# Altium footprint library R8 Bran.PcbLib: 57 footprints (part 4 of 4)
Each footprint in its own frame and in the unit in brackets; x right, y up, seen from the top. Pads: shape width x height; smd on the part's side, far side on the other; paste and mask are expansions set on the pad; w line width, h text height; cw(c..) or ccw(c..) is an arc to the next point about the centre after c.
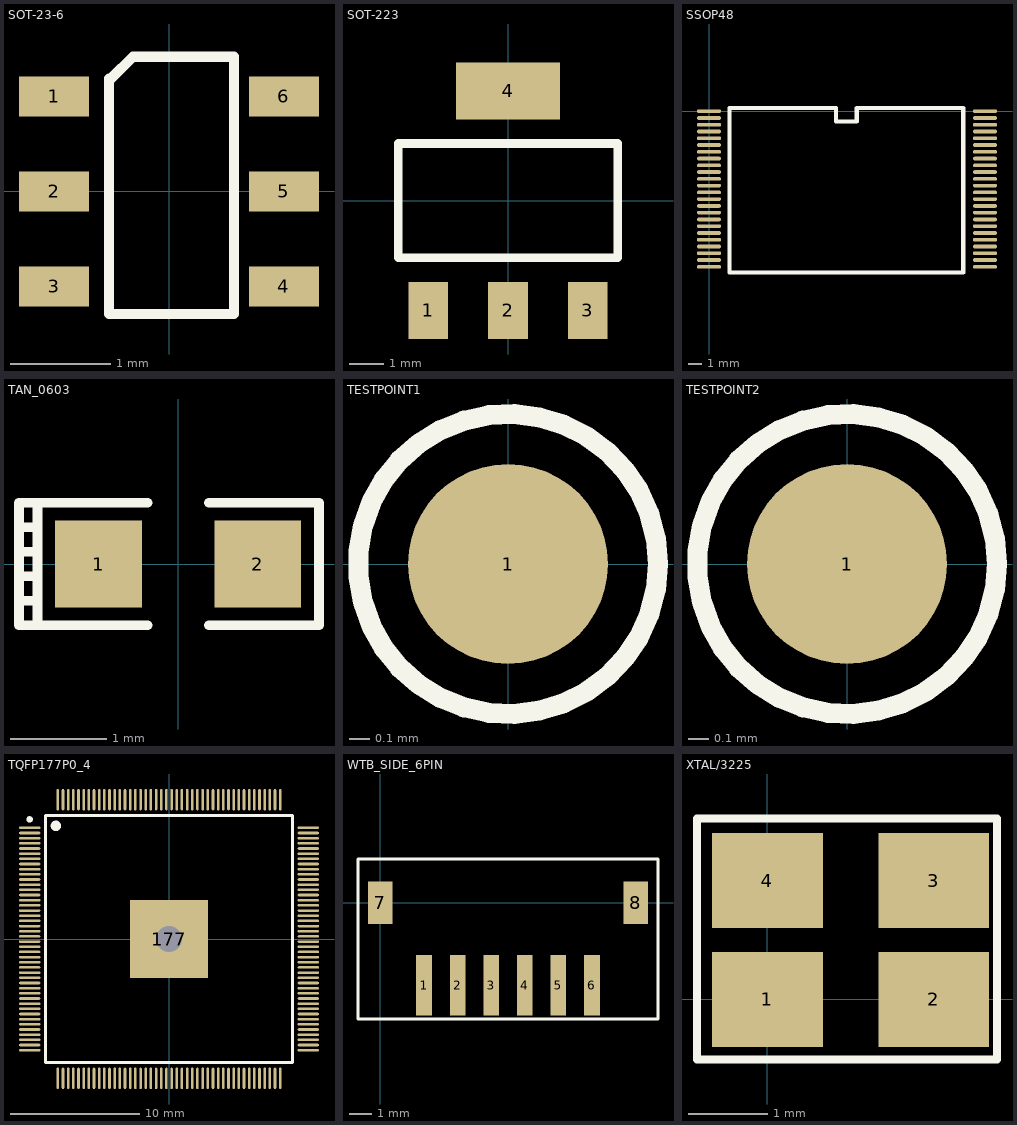
[diagram p3: the footprints below, top view; thin cyan lines are the x and y axes]

## SOT-23-6 [mm]
pads (6):
  rect 0.7x0.4 smd: 1(-1.15,0.95) 2(-1.15,0) 3(-1.15,-0.95) 4(1.15,-0.95) 5(1.15,0) 6(1.15,0.95)
Top Overlay:
  lines w0.102: -0.601,-1.226 0.649,-1.226 0.649,1.346 -0.36,1.346 -0.577,1.13 -0.601,1.13 -0.601,-1.226

## SOT-223 [mil]
pads (4):
  rect 45x65 smd: 1(-91,-125) 2(0,-125) 3(91,-125)
  rect 118x65 smd: 4(0,125)
Top Overlay:
  lines w10: -125,-65 125,-65 125,65 -125,65 -125,-65

## SSOP48 [mm]
pads (48):
  oval 1.778x0.275 smd: 1(0,0) 2(0,-0.5) 3(0,-1) 4(0,-1.5) 5(0,-2) 6(0,-2.5) 7(0,-3) 8(0,-3.5) 9(0,-4) 10(0,-4.5) 11(0,-5) 12(0,-5.5) 13(0,-6) 14(0,-6.5) 15(0,-7) 16(0,-7.5) 17(0,-8) 18(0,-8.5) 19(0,-9) 20(0,-9.5) 21(0,-10) 22(0,-10.5) 23(0,-11) 24(0,-11.5) 25(20.4,-11.5) 26(20.4,-11) 27(20.4,-10.5) 28(20.4,-10) 29(20.4,-9.5) 30(20.4,-9) 31(20.4,-8.5) 32(20.4,-8) 33(20.4,-7.5) 34(20.4,-7) 35(20.4,-6.5) 36(20.4,-6) 37(20.4,-5.5) 38(20.4,-5) 39(20.4,-4.5) 40(20.4,-4) 41(20.4,-3.5) 42(20.4,-3) 43(20.4,-2.5) 44(20.4,-2) 45(20.4,-1.5) 46(20.4,-1) 47(20.4,-0.5) 48(20.4,0)
Top Overlay:
  lines w0.3: 1.524,-11.938 1.524,0.254 9.398,0.254 9.398,-0.762 10.922,-0.762 10.922,0.254 18.796,0.254 18.796,-11.938 1.524,-11.938

## TAN_0603 [mm]
pads (2):
  rect 0.9x0.9 smd: 1(-0.826,0) 2(0.826,0)
Top Overlay:
  lines w0.102: -1.651,-0.127 -1.46,-0.127 ; -1.587,-0.381 -1.46,-0.381 ; -1.587,0.127 -1.46,0.127 ; -1.587,0.381 -1.46,0.381 ; -1.397,-0.635 -1.651,-0.635 -1.651,0.635 -1.46,0.635 ; -0.318,-0.635 -1.46,-0.635 -1.46,0.635 ; -0.318,0.635 -1.46,0.635 ; 0.318,-0.635 1.46,-0.635 1.46,0.635 0.318,0.635
3D body: height 0.9, standoff 0, extent -1.377,-0.552 1.377,0.552

## TESTPOINT1 [mm]
pads (1):
  round 1 smd: 1(0,0)
Top Overlay:
  circle w0.1: c0,0 r0.75
3D body: height 0.1, standoff 0, extent -0.602,-0.602 0.602,0.602

## TESTPOINT2 [mm]
pads (1):
  round 1 smd: 1(0,0)
Top Overlay:
  circle w0.1: c0,0 r0.75
3D body: height 0.1, standoff 0, extent -0.602,-0.602 0.602,0.602

## TQFP177P0_4 [mm]
pads (177):
  oval 1.65x0.2 smd: 1(-10.775,8.6) 2(-10.775,8.2) 3(-10.775,7.8) 4(-10.775,7.4) 5(-10.775,7) 6(-10.775,6.6) 7(-10.775,6.2) 8(-10.775,5.8) 9(-10.775,5.4) 10(-10.775,5) 11(-10.775,4.6) 12(-10.775,4.2) 13(-10.775,3.8) 14(-10.775,3.4) 15(-10.775,3) 16(-10.775,2.6) 17(-10.775,2.2) 18(-10.775,1.8) 19(-10.775,1.4) 20(-10.775,1) 21(-10.775,0.6) 22(-10.775,0.2) 23(-10.775,-0.2) 24(-10.775,-0.6) 25(-10.775,-1) 26(-10.775,-1.4) 27(-10.775,-1.8) 28(-10.775,-2.2) 29(-10.775,-2.6) 30(-10.775,-3) 31(-10.775,-3.4) 32(-10.775,-3.8) 33(-10.775,-4.2) 34(-10.775,-4.6) 35(-10.775,-5) 36(-10.775,-5.4) 37(-10.775,-5.8) 38(-10.775,-6.2) 39(-10.775,-6.6) 40(-10.775,-7) 41(-10.775,-7.4) 42(-10.775,-7.8) 43(-10.775,-8.2) 44(-10.775,-8.6) 89(10.775,-8.6) 90(10.775,-8.2) 91(10.775,-7.8) 92(10.775,-7.4) 93(10.775,-7) 94(10.775,-6.6) 95(10.775,-6.2) 96(10.775,-5.8) 97(10.775,-5.4) 98(10.775,-5) 99(10.775,-4.6) 100(10.775,-4.2) 101(10.775,-3.8) 102(10.775,-3.4) 103(10.775,-3) 104(10.775,-2.6) 105(10.775,-2.2) 106(10.775,-1.8) 107(10.775,-1.4) 108(10.775,-1) 109(10.775,-0.6) 110(10.775,-0.2) 111(10.775,0.2) 112(10.775,0.6) 113(10.775,1) 114(10.775,1.4) 115(10.775,1.8) 116(10.775,2.2) 117(10.775,2.6) 118(10.775,3) 119(10.775,3.4) 120(10.775,3.8) 121(10.775,4.2) 122(10.775,4.6) 123(10.775,5) 124(10.775,5.4) 125(10.775,5.8) 126(10.775,6.2) 127(10.775,6.6) 128(10.775,7) 129(10.775,7.4) 130(10.775,7.8) 131(10.775,8.2) 132(10.775,8.6)
  oval 0.2x1.65 smd: 45(-8.6,-10.775) 46(-8.2,-10.775) 47(-7.8,-10.775) 48(-7.4,-10.775) 49(-7,-10.775) 50(-6.6,-10.775) 51(-6.2,-10.775) 52(-5.8,-10.775) 53(-5.4,-10.775) 54(-5,-10.775) 55(-4.6,-10.775) 56(-4.2,-10.775) 57(-3.8,-10.775) 58(-3.4,-10.775) 59(-3,-10.775) 60(-2.6,-10.775) 61(-2.2,-10.775) 62(-1.8,-10.775) 63(-1.4,-10.775) 64(-1,-10.775) 65(-0.6,-10.775) 66(-0.2,-10.775) 67(0.2,-10.775) 68(0.6,-10.775) 69(1,-10.775) 70(1.4,-10.775) 71(1.8,-10.775) 72(2.2,-10.775) 73(2.6,-10.775) 74(3,-10.775) 75(3.4,-10.775) 76(3.8,-10.775) 77(4.2,-10.775) 78(4.6,-10.775) 79(5,-10.775) 80(5.4,-10.775) 81(5.8,-10.775) 82(6.2,-10.775) 83(6.6,-10.775) 84(7,-10.775) 85(7.4,-10.775) 86(7.8,-10.775) 87(8.2,-10.775) 88(8.6,-10.775) 133(8.6,10.775) 134(8.2,10.775) 135(7.8,10.775) 136(7.4,10.775) 137(7,10.775) 138(6.6,10.775) 139(6.2,10.775) 140(5.8,10.775) 141(5.4,10.775) 142(5,10.775) 143(4.6,10.775) 144(4.2,10.775) 145(3.8,10.775) 146(3.4,10.775) 147(3,10.775) 148(2.6,10.775) 149(2.2,10.775) 150(1.8,10.775) 151(1.4,10.775) 152(1,10.775) 153(0.6,10.775) 154(0.2,10.775) 155(-0.2,10.775) 156(-0.6,10.775) 157(-1,10.775) 158(-1.4,10.775) 159(-1.8,10.775) 160(-2.2,10.775) 161(-2.6,10.775) 162(-3,10.775) 163(-3.4,10.775) 164(-3.8,10.775) 165(-4.2,10.775) 166(-4.6,10.775) 167(-5,10.775) 168(-5.4,10.775) 169(-5.8,10.775) 170(-6.2,10.775) 171(-6.6,10.775) 172(-7,10.775) 173(-7.4,10.775) 174(-7.8,10.775) 175(-8.2,10.775) 176(-8.6,10.775)
  rrect0% 6x6 hole 2: 177(0,0)
Top Overlay:
  circle w0.25: c-10.775,9.25 r0.125
  circle w0.4: c-8.75,8.75 r0.2
  lines w0.2: -9.55,-9.55 -9.55,9.55 9.55,9.55 9.55,-9.55 -9.55,-9.55

## WTB_SIDE_6PIN [mm]
pads (8):
  rect 0.7x2.7 smd: 1(1.95,-3.7) 2(3.45,-3.7) 3(4.95,-3.7) 4(6.45,-3.7) 5(7.95,-3.7) 6(9.45,-3.7)
  rect 1.1x1.9 smd: 7(0,0) 8(11.4,0)
Top Overlay:
  lines w0.15: -1,-5.2 12.4,-5.2 12.4,1.95 -1,1.95 -1,-5.2

## XTAL/3225 [mm]
pads (4):
  rect 1.4x1.2 smd: 1(0,0) 2(2.1,0) 3(2.1,1.5) 4(0,1.5)
Top Overlay:
  lines w0.102: -0.889,-0.762 2.898,-0.762 2.898,2.286 -0.889,2.286 -0.889,-0.762